# EAGLE library part BM92A (library rohm)
USB Type-C Power Delivery Controller
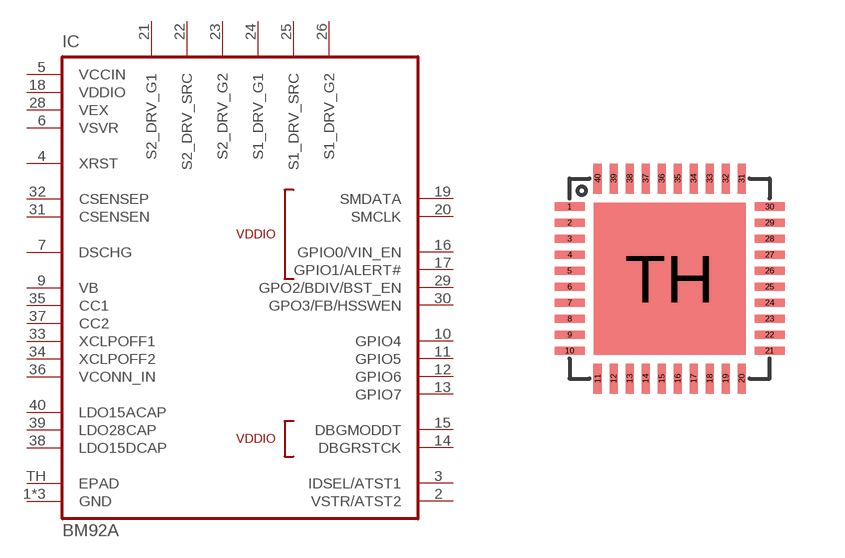
[diagram p1: symbol with the pads of UFQN40; footprint UFQN40]

Designator prefix IC

## BM92A14MWV (FARNELL: 2832159)  [UFQN40]
1  GND  pwr
2  VSTR/ATST2
3  IDSEL/ATST1  in
4  XRST  in
5  VCCIN  pwr
6  VSVR  pwr
7  DSCHG
8  GND  pwr
9  VB  in
10  GPIO4  in
11  GPIO5  in
12  GPIO6  in
13  GPIO7  in
14  DBGRSTCK
15  DBGMODDT
16  GPIO0/VIN_EN  in
17  GPIO1/ALERT#  out
18  VDDIO  pwr
19  SMDATA
20  SMCLK  in
21  S2_DRV_G1  out
22  S2_DRV_SRC  in
23  S2_DRV_G2  out
24  S1_DRV_G1  out
25  S1_DRV_SRC  in
26  S1_DRV_G2  out
27  GND  pwr
28  VEX  pwr
29  GPO2/BDIV/BST_EN  out
30  GPO3/FB/HSSWEN  out
31  CSENSEN  in
32  CSENSEP  in
33  XCLPOFF1  in
34  XCLPOFF2  in
35  CC1
36  VCONN_IN  in
37  CC2
38  LDO15DCAP  out
39  LDO28CAP  out
40  LDO15ACAP  out
TH  EPAD  pwr

## Footprint UFQN40 (pad centres in mm)
smd 0.75 x 0.2: 1 -2.5,1.8; 2 -2.5,1.4; 3 -2.5,1; 4 -2.5,0.6; 5 -2.5,0.2; 6 -2.5,-0.2; 7 -2.5,-0.6; 8 -2.5,-1; 9 -2.5,-1.4; 10 -2.5,-1.8; 21 2.5,-1.8; 22 2.5,-1.4; 23 2.5,-1; 24 2.5,-0.6; 25 2.5,-0.2; 26 2.5,0.2; 27 2.5,0.6; 28 2.5,1; 29 2.5,1.4; 30 2.5,1.8
smd 0.2 x 0.75: 11 -1.8,-2.5; 12 -1.4,-2.5; 13 -1,-2.5; 14 -0.6,-2.5; 15 -0.2,-2.5; 16 0.2,-2.5; 17 0.6,-2.5; 18 1,-2.5; 19 1.4,-2.5; 20 1.8,-2.5; 31 1.8,2.5; 32 1.4,2.5; 33 1,2.5; 34 0.6,2.5; 35 0.2,2.5; 36 -0.2,2.5; 37 -0.6,2.5; 38 -1,2.5; 39 -1.4,2.5; 40 -1.8,2.5
smd 3.8 x 3.8: TH 0,0